# EAGLE library part 91930-21115LF (library SHC)
Female 15 contact connector http://search.digikey.com/us/en/products/91930-21115LF/609-1590-ND/1001904
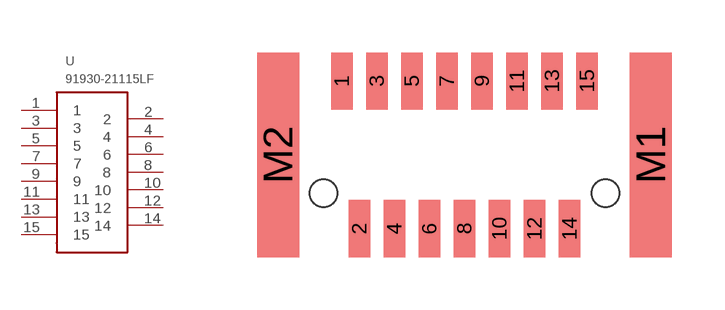
[diagram p31: symbol with the pads of 91930-21115LF; footprint 91930-21115LF]

Designator prefix -

## 91930-21115LF  [91930-21115LF]
1  1
2  2
3  3
4  4
5  5
6  6
7  7
8  8
9  9
10  10
11  11
12  12
13  13
14  14
15  15

## Footprint 91930-21115LF (pad centres in mm)
smd 0.61 x 1.63: 1 -3.5,2.11; 2 -3,-2.11; 3 -2.5,2.11; 4 -2,-2.11; 5 -1.5,2.11; 6 -1,-2.11; 7 -0.5,2.11; 8 0,-2.11; 9 0.5,2.11; 10 1,-2.11; 11 1.5,2.11; 12 2,-2.11; 13 2.5,2.11; 14 3,-2.11; 15 3.5,2.11
smd 1.2 x 5.85: M1 5.32,0; M2 -5.32,0
hole 0.8 at -4.026,-1.1
hole 0.8 at 4.026,-1.1